# Altium footprint library 3Delight.PcbLib: 111 footprints (part 3 of 7)
Each footprint in its own frame and in the unit in brackets; x right, y up, seen from the top. Pads: shape width x height; smd on the part's side, far side on the other; paste and mask are expansions set on the pad; w line width, h text height; cw(c..) or ccw(c..) is an arc to the next point about the centre after c.
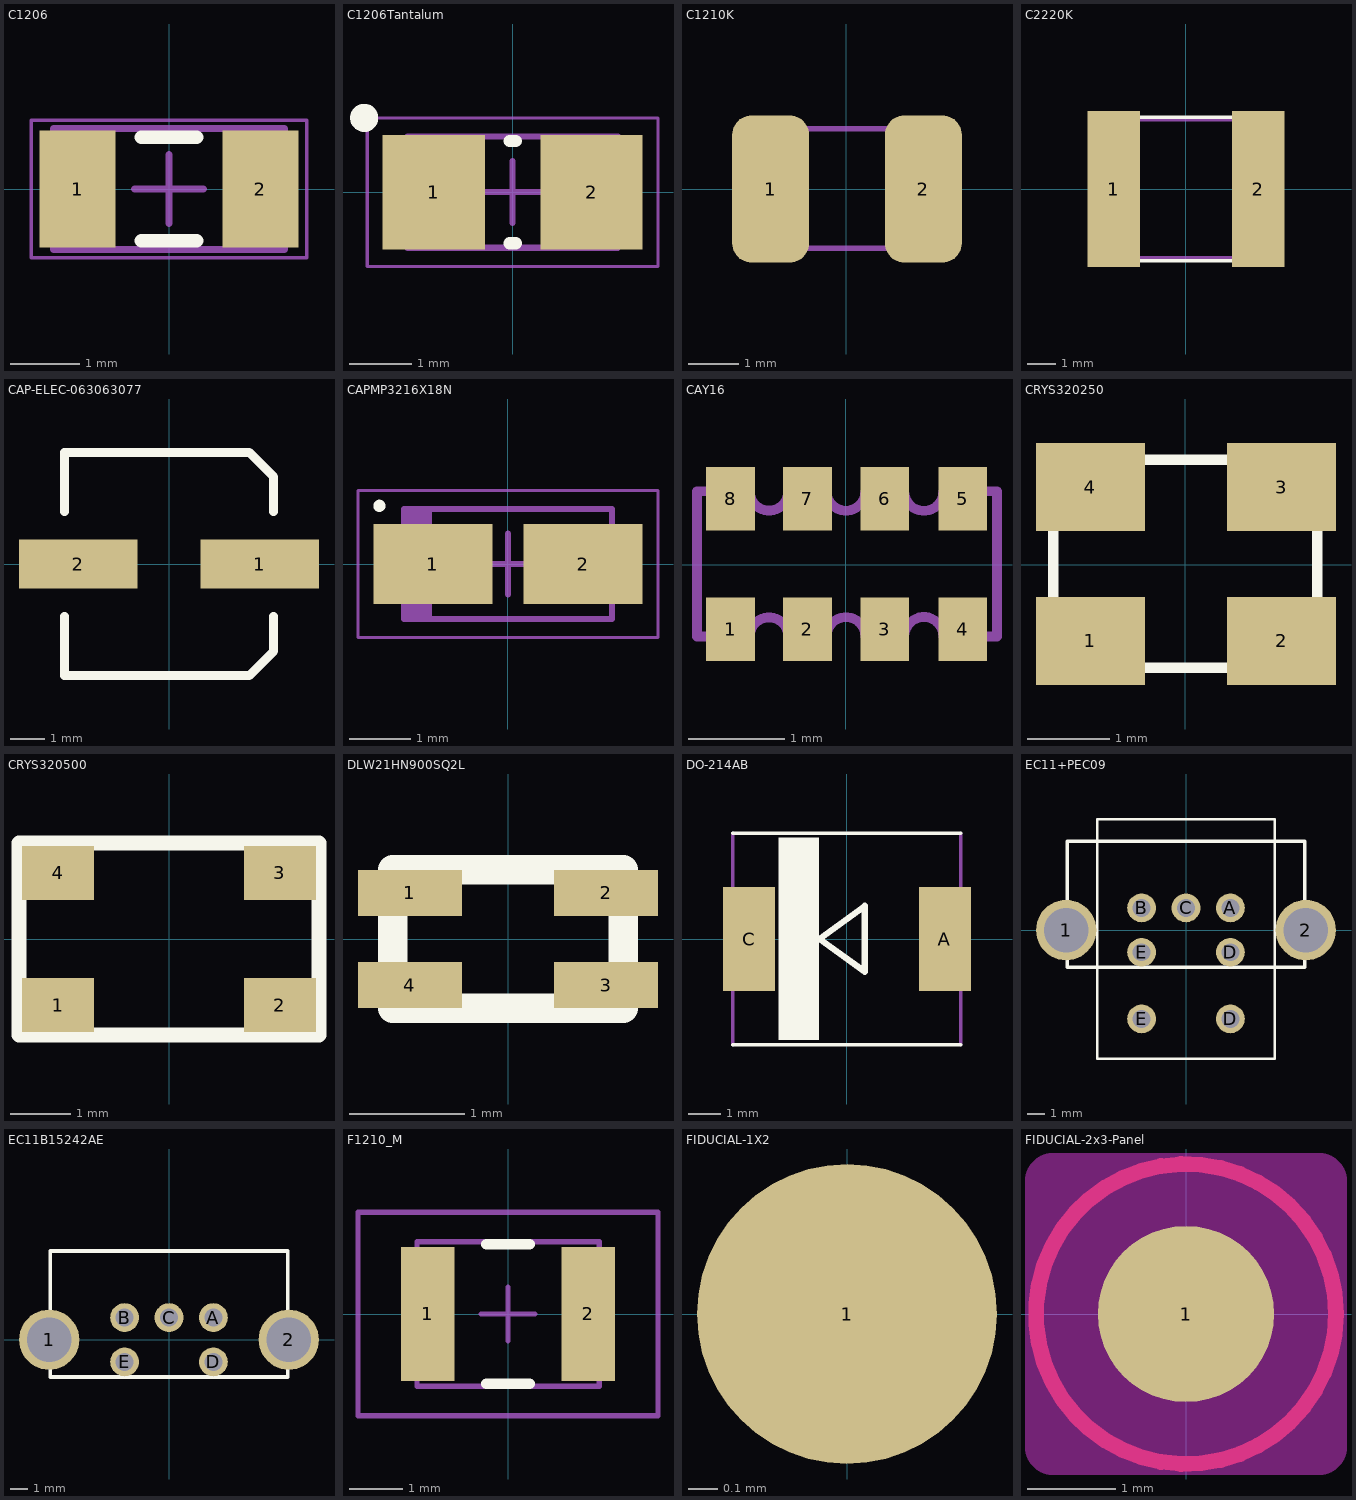
[diagram p2: the footprints below, top view; thin cyan lines are the x and y axes]

## C1206 [mm]
height 1.6
pads (2):
  rect 1.1x1.7 smd: 1(-1.325,0) 2(1.325,0)
Top Overlay:
  lines w0.2: -0.4,-0.75 0.4,-0.75 ; -0.4,0.75 0.4,0.75
Mechanical 13:
  lines w0.1: -1.675,-0.875 1.675,-0.875 1.675,0.875 -1.675,0.875 -1.675,-0.875
Top Courtyard:
  lines w0.05: -2,-1 2,-1 2,1 -2,1 -2,-1
  lines w0.1: -0.5,0 0.5,0 ; 0,-0.5 0,0.5
3D body: height 1.6, standoff 0, extent 1.125,-0.875 1.675,0.875
3D body: height 1.6, standoff 0, extent -1.675,-0.875 -1.125,0.875
3D body: height 1.6, standoff 0, extent -1.125,-0.875 1.125,0.875

## C1206Tantalum [mm] "Chip Capacitor, 2-Leads, Body 3.20x1.60mm, IPC Medium Density"
height 1.8
pads (2):
  rect 1.65x1.85 smd: 1(-1.275,0) 2(1.275,0)
Top Overlay:
  circle w0.254: c-2.4,1.2 r0.1
  lines w0.2: -0.05,-0.825 0.05,-0.825 ; -0.05,0.825 0.05,0.825
Mechanical 13:
  lines w0.1: -1.7,-0.9 1.7,-0.9 1.7,0.9 -1.7,0.9 -1.7,-0.9
Top Courtyard:
  lines w0.05: -2.35,-1.2 2.35,-1.2 2.35,1.2 -2.35,1.2 -2.35,-1.2
  lines w0.1: -0.5,0 0.5,0 ; 0,-0.5 0,0.5
3D body: height 1.8, standoff 0, extent 0.85,-0.9 1.7,0.9
3D body: height 1.8, standoff 0, extent -1.7,-0.9 -0.85,0.9
3D body: height 1.8, standoff 0, extent -0.85,-0.9 0.85,0.9

## C1210K [mil]
pads (2):
  rrect50% 60x115 smd: 1(-59.06,0) 2(60,0)
Top Document:
  rectangle: -62.99,-49.21 -43.31,50
  rectangle: 44,-49.21 63,50
  lines w4: -60.04,-46.26 61,-46.26 ; -60.04,47 61,47
3D body: height 51.18, standoff 0, extent -70,-55 70,55

## C2220K [mil]
pads (2):
  rect 73x217 smd: 1(-100.39,0) 2(101,0)
Top Overlay:
  lines w5: -125,-100 125,-100 125,100 -125,100 -125,-100
Top Document:
  rectangle: -110.24,-98.43 -86.61,99
  rectangle: 87,-98.43 111,99
  lines w4: -107.28,-95.47 108,-95.47 ; -107.28,96 108,96
3D body: height 57.09, standoff 0, extent -110.24,-98.43 111,99

## CAP-ELEC-063063077 [mm] "6.3x6.3x7.7mm"
height 7.7
pads (2):
  rect 3.4x1.4 smd: 1(2.6,0) 2(-2.6,0)
Top Overlay:
  lines w0.254: -3,-1.5 -3,-3.2 2.3,-3.2 3,-2.5 3,-1.5 ; -3,1.5 -3,3.2 2.3,3.2 3,2.5 3,1.5
3D body "User Library-ALU-D.STEP": height 5.4, standoff 0, extent -3.5,-3.3 3.5,3.3

## CAPMP3216X18N [mm] "Molded Capacitor, 2-Leads, Body 3.20x1.60mm, IPC Medium Density"
height 1.8
pads (2):
  rect 1.95x1.3 smd: 1(-1.225,0) 2(1.225,0)
Top Overlay:
  circle w0.1: c-2.1,0.95 r0.05
Mechanical 13:
  rectangle: -1.7,-0.9 -1.243,0.9
  lines w0.1: -1.7,-0.9 -1.7,0.9 1.7,0.9 1.7,-0.9 -1.7,-0.9
Top Courtyard:
  lines w0.05: -2.45,-1.2 -2.45,1.2 2.45,1.2 2.45,-1.2 -2.45,-1.2
  lines w0.1: -0.5,0 0.5,0 ; 0,-0.5 0,0.5
3D body: height 1.8, standoff 0, extent -1.7,-0.9 1.7,0.9

## CAY16 [mil]
pads (8):
  rect 20x26 smd: 1(-47.24,-26.57) 2(-15.75,-26.57) 3(16,-26.57) 4(48,-26.57) 5(48,27) 6(16,27) 7(-15.75,27) 8(-47.24,27)
Top Document:
  lines w4: -61.02,-29.53 -61.02,30 -39.37,30 ccw(c-31.5,30) -23.62,30 -7.87,30 ccw(c0.06,30) 8,30 24,30 ccw(c32,30) 40,30 62,30 62,-29.53 40,-29.53 ccw(c32,-29.53) 24,-29.53 8,-29.53 ccw(c0.06,-29.53) -7.87,-29.53 -23.62,-29.53 ccw(c-31.5,-29.53) -39.37,-29.53 -61.02,-29.53
3D body: height 19.68, standoff 0, extent -61.04,-29.55 62.02,30.02

## CRYS320250 [mil]
pads (4):
  rect 52x42 smd: 1(-45.28,-36.42) 2(46,-36.42) 3(46,37) 4(-45.28,37)
Top Overlay:
  lines w5: -62.99,-49.21 -62.99,50 63,50 63,-49.21 -62.99,-49.21
3D body: height 27.56, standoff 0, extent -62.97,-49.19 62.98,49.98

## CRYS320500 [mm]
pads (4):
  rect 1.2x0.9 smd: 1(-1.85,-1.1) 2(1.85,-1.1) 3(1.85,1.1) 4(-1.85,1.1)
Top Overlay:
  lines w0.254: -2.5,-1.6 -2.5,1.6 2.5,1.6 2.5,-1.6 -2.5,-1.6
3D body: height 1.05, standoff 0, extent -2.552,-1.652 2.552,1.652

## DLW21HN900SQ2L [mm]
pads (4):
  rect 0.9x0.4 smd: 1(-0.85,0.4) 2(0.85,0.4) 3(0.85,-0.4) 4(-0.85,-0.4)
Top Overlay:
  lines w0.254: -1,-0.6 1,-0.6 1,0.6 -1,0.6 -1,-0.6
3D body: height 1, standoff 0, extent -0.999,-0.599 0.999,0.599

## DO-214AB [mil]
pads (2):
  rect 63x126 smd: A(119,0) C(-118.11,0)
Top Overlay:
  rectangle: -82.68,-122.05 -33.46,123
  lines w4: -137.8,-127.95 138,-127.95 ; -137.8,128 138,128
  lines w8: -32.68,0 22,40 22,-39.37 -32.68,0
Top Document:
  rectangle: -136.18,-43 -115.18,43
  rectangle: 116,-43 137,43
  lines w4: -137.8,-127.95 -137.8,128 ; 138,-127.95 138,128
3D body: height 98.43, standoff 0, extent -139.8,-129.95 140,130

## EC11+PEC09 [mm]
pads (9):
  round 3.4 hole 2.5 paste-99 mask-0.102: 1(-6.75,0) 2(6.75,0)
  round 1.62 hole 1 paste-99 mask-0.102: A(2.5,1.25) B(-2.5,1.25) C(0,1.25) D(2.5,-5) D(2.5,-1.25) E(-2.5,-5) E(-2.5,-1.25)
Top Overlay:
  lines w0.152: -5,-7.25 5,-7.25 5,6.25 -5,6.25 -5,-7.25
  lines w0.203: -6.7,-2.1 -6.7,5 6.7,5 6.7,-2.1 -6.7,-2.1
3D body "EC11B15242AE.STEP": height 13.82, standoff -3.5, extent -7.05,-2 7.05,25
3D body: height 11.35, standoff 0, extent -4.999,-7.249 4.999,-2.101

## EC11B15242AE [mm]
pads (7):
  round 3.4 hole 2.5 paste-99 mask-0.102: 1(-6.75,0) 2(6.75,0)
  round 1.62 hole 1 paste-99 mask-0.102: A(2.5,1.25) B(-2.5,1.25) C(0,1.25) D(2.5,-1.25) E(-2.5,-1.25)
Top Overlay:
  lines w0.203: -6.7,-2.1 6.7,-2.1 6.7,5 -6.7,5 -6.7,-2.1
3D body "EC11B15242AE.STEP": height 13.82, standoff -3.5, extent -7.05,-2 7.05,25

## F1210_M [mm] "Bournes PTC Fuse"
height 1.5
pads (2):
  rect 1x2.5 smd: 1(-1.5,0) 2(1.5,0)
Top Overlay:
  lines w0.2: -0.4,-1.3 0.4,-1.3 ; -0.4,1.3 0.4,1.3
Mechanical 13:
  lines w0.1: -1.7,-1.35 -1.7,1.35 1.7,1.35 1.7,-1.35 -1.7,-1.35
Top Courtyard:
  lines w0.1: -0.5,0 0.5,0 ; 0,-0.5 0,0.5 ; -2.8,-1.9 -2.8,1.9 2.8,1.9 2.8,-1.9 -2.8,-1.9
3D body: height 0.85, standoff 0, extent -1.7,-1.35 1.7,1.4

## FIDUCIAL-1X2 [mil]
pads (1):
  rrect100% 40x40 smd paste-3897.64 mask+20: 1(0,0)
3D body: height 0.79, standoff 0, extent -19.84,-19.96 20.01,19.97

## FIDUCIAL-2x3-Panel [mm]
pads (1):
  rrect100% 2x2 smd paste+0 mask+0.508: 1(0,0)
Top Layer:
  circle w0.178: c0,0 r1.7
Keep-Out Layer:
  region: -1.5,-1.7 -1.54,-1.7 -1.613,-1.67 -1.67,-1.613 -1.7,-1.54 -1.7,-1.5 -1.7,1.5 -1.7,1.54 -1.67,1.613 -1.613,1.67 -1.54,1.7 -1.5,1.7 1.5,1.7 1.54,1.7 1.613,1.67 1.67,1.613 1.7,1.54 1.7,1.5 1.7,-1.5 1.7,-1.54 1.67,-1.613 1.613,-1.67 1.54,-1.7 1.5,-1.7
  lines w0.254: -1.7,-1.5 ccw(c-1.5,-1.5) -1.5,-1.7 1.5,-1.7 ccw(c1.5,-1.5) 1.7,-1.5 1.7,1.5 ccw(c1.5,1.5) 1.5,1.7 -1.5,1.7 ccw(c-1.5,1.5) -1.7,1.5 -1.7,-1.5
3D body: height 0.02, standoff 0, extent -0.504,-0.507 0.508,0.507
3D body: height 0.01, standoff 0, extent -1.008,-1.014 1.016,1.014